# EAGLE library part R-ARRAY_4R (library F030NG)
CTS 774 Series 8 Terminations, 4 Resistors
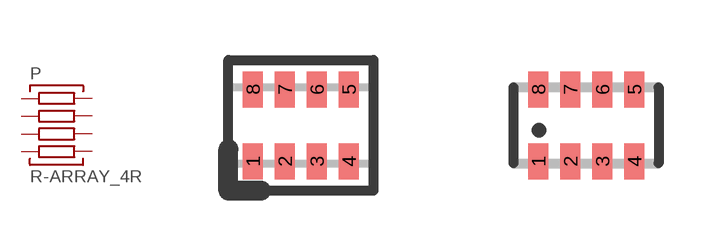
[diagram p78: symbol with the pads of CTS-774-8; footprints CTS-774-8, CTS-774-8NS]

Designator prefix P

## R-ARRAY_4RCTS-774-8  [CTS-774-8]
1  1  pas
2  2  pas
3  3  pas
4  4  pas
5  5  pas
6  6  pas
7  7  pas
8  8  pas

## R-ARRAY_4RCTS-774-8NS  [CTS-774-8NS]
Pads as for CTS-774-8

## Footprint CTS-774-8 (pad centres in mm)
CTS 742 Series 16 Terminations, 8 Resistors
smd 0.5 x 0.9: 1 -1.2,-0.9; 2 -0.4,-0.9; 3 0.4,-0.9; 4 1.2,-0.9; 5 1.2,0.9; 6 0.4,0.9; 7 -0.4,0.9; 8 -1.2,0.9

## Footprint CTS-774-8NS (pad centres in mm)
CTS 742 Series 16 Terminations, 8 Resistors
smd 0.5 x 0.9: 1 -2.8,-0.9; 2 -2,-0.9; 3 -1.2,-0.9; 4 -0.4,-0.9; 5 -0.4,0.9; 6 -1.2,0.9; 7 -2,0.9; 8 -2.8,0.9